# Altium footprint library Sensor.PcbLib: 5 footprints
Each footprint in its own frame and in the unit in brackets; x right, y up, seen from the top. Pads: shape width x height; smd on the part's side, far side on the other; paste and mask are expansions set on the pad; w line width, h text height; cw(c..) or ccw(c..) is an arc to the next point about the centre after c.
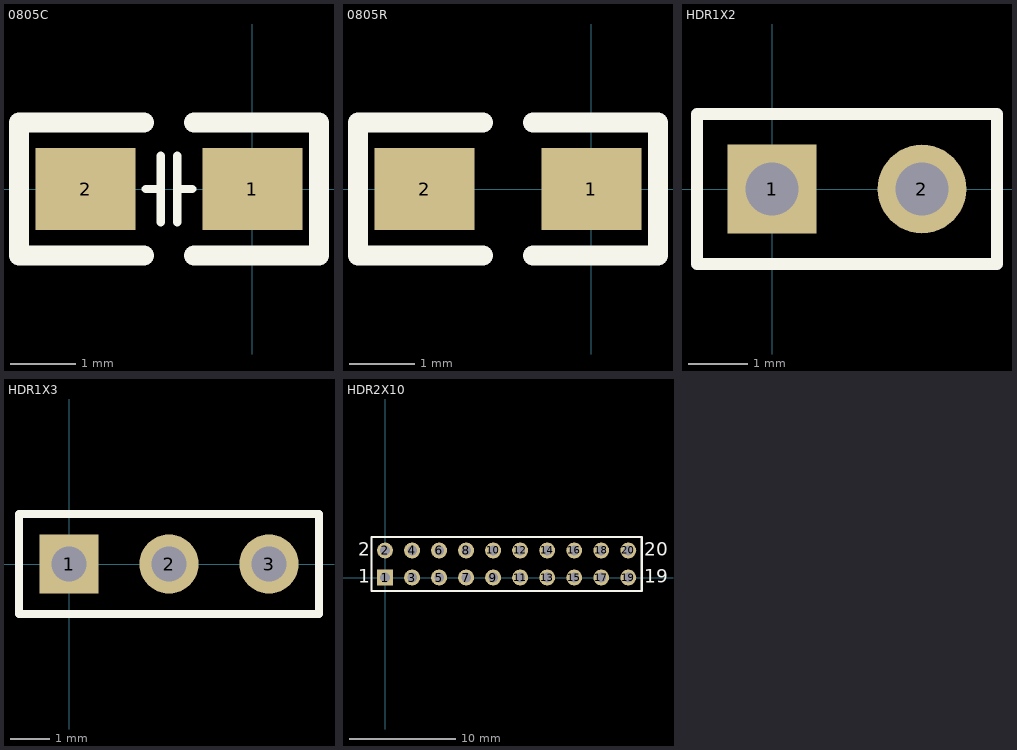
[diagram p0: the footprints below, top view; thin cyan lines are the x and y axes]

## 0805C [mm]
height 0.254
pads (2):
  rect 1.524x1.25 smd: 1(0,0) 2(-2.54,0)
Top Overlay:
  lines w0.127: -1.626,0 -1.397,0 ; -1.397,-0.508 -1.397,0.508 ; -1.143,-0.508 -1.143,0.508 ; -1.143,0 -0.914,0
  lines w0.305: -1.651,-1.016 -3.556,-1.016 -3.556,1.016 -1.651,1.016 ; -0.889,-1.016 1.016,-1.016 1.016,1.016 -0.889,1.016
3D body: height 0.92, standoff 0, extent -2.402,-0.635 -0.392,0.615

## 0805R [mm]
height 0.254
pads (2):
  rect 1.524x1.25 smd: 1(0,0) 2(-2.54,0)
Top Overlay:
  lines w0.305: -1.651,-1.016 -3.556,-1.016 -3.556,1.016 -1.651,1.016 ; -0.889,-1.016 1.016,-1.016 1.016,1.016 -0.889,1.016

## HDR1X2 [mm] "Connector; Header; 2 Position"
pads (2):
  rect 1.5x1.5 hole 0.9: 1(0,0)
  round 1.5 hole 0.9: 2(2.54,0)
Top Overlay:
  lines w0.2: -1.27,-1.27 3.81,-1.27 3.81,1.27 -1.27,1.27 -1.27,-1.27

## HDR1X3 [mm] "Connector; Header; 3 Position"
pads (3):
  rect 1.5x1.5 hole 0.9: 1(0,0)
  round 1.5 hole 0.9: 2(2.54,0) 3(5.08,0)
Top Overlay:
  lines w0.2: -1.27,-1.27 6.35,-1.27 6.35,1.27 -1.27,1.27 -1.27,-1.27

## HDR2X10 [mm] "Connector; Header; 10x2 Position"
pads (20):
  rect 1.5x1.5 hole 0.9: 1(0,0)
  round 1.5 hole 0.9: 2(0,2.54) 3(2.54,0) 4(2.54,2.54) 5(5.08,0) 6(5.08,2.54) 7(7.62,0) 8(7.62,2.54) 9(10.16,0) 10(10.16,2.54) 11(12.7,0) 12(12.7,2.54) 13(15.24,0) 14(15.24,2.54) 15(17.78,0) 16(17.78,2.54) 17(20.32,0) 18(20.32,2.54) 19(22.86,0) 20(22.86,2.54)
Top Overlay:
  lines w0.2: -1.27,-1.27 -1.27,3.81 0.635,3.81 24.13,3.81 24.13,-1.27 0.635,-1.27 -1.27,-1.27
  text "2" at -2.54,2.032 h1.27
  text "1" at -2.54,-0.508 h1.27
  text "19" at 24.384,-0.508 h1.27
  text "20" at 24.384,2.032 h1.27